# Altium schematic symbol library Capacitor.SchLib: 75 symbols (part 1 of 2)
Pins are listed as number, name and electrical type; pins without a type are passive.

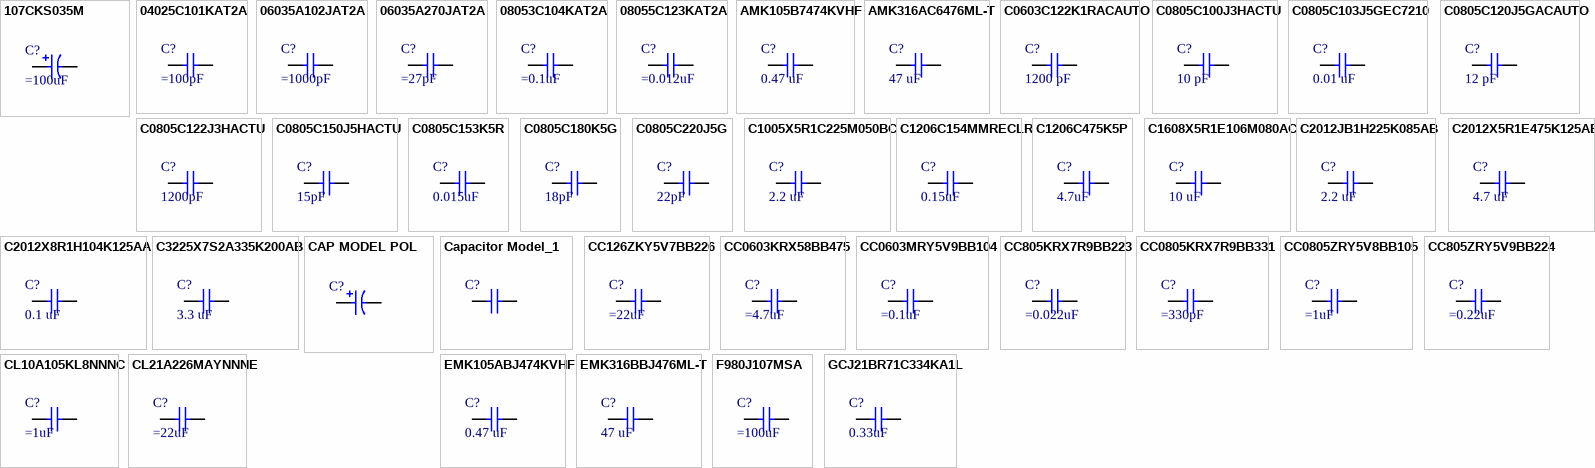
[diagram p0: symbols 107CKS035M to GCJ21BR71C334KA1L]

## 107CKS035M
designator C?
CAP TAN 100uF 35V Radial; Manufacturer: Cornell Dubilier; Part Number: 107CKS035M; Tolerance: 20%; ESR: 1.989; Dieletric: Eletrolytic; Supplier 1: Mouser; Category: Eletrolytic Capacitor; Price: 1=0,24, 10=0,126, 100=0,074 (USD); Supplier Part Number 1: 598-107CKS035M; Library Ref: Capacitor; Operating Temperature: -40 to 85ºC; Package / Case: Radial PTH; Size / Dimension: 6.3mmx11mm; Value: 100uF; Voltage - Rated: 35V; ComponentLink1Description: Datasheet; ComponentLink1URL: https://br.mouser.com/datasheet/2/88/CKR_CKS_series-772731.pdf; ComponentLink2Description: Mouser Link; ComponentLink2URL: https://br.mouser.com/ProductDetail/CDE-Illinois-Capacitor/107CKS035M?qs=%2Fha2pyFaduj0NJWQ67zoZBcPzFI1VoJId1S4xcgPhkHeztxHYJg8Iw%3D%3D
pins: 1, 2

## 04025C101KAT2A
designator C?
CAP CER 100pF 50V X7R 0402; Manufacturer: AVX; Part Number: 04025C101KAT2A; Tolerance: 10%; ESR: 0.05; Supplier 1: Mouser; Category: Ceramic Capacitor; Price: 1=0,08, 10=0.02, 100=0.014 (USD); Supplier Part Number 1: 581-04025C101KAT2A; Library Ref: Ceramic Capacitor; Operating Temperature: -55 to 125ºC; Package / Case: 0402; Size / Dimension: 04in x 02in; Voltage - Rated: 50V; Dieletric: X7R; ComponentLink1Description: Datasheet; ComponentLink1URL: https://br.mouser.com/datasheet/2/40/X7RDielectric-777024.pdf; Value: 100pF; ComponentLink2Description: Mouser Link; ComponentLink2URL: https://br.mouser.com/ProductDetail/AVX/04025C101KAT2A?qs=%2Fha2pyFaduhggj4ZhF4G5XhN6TccHIDYkXIcBOPptfnZFgW%252B7rVTLA%3D%3D
pins: 1, 2

## 06035A102JAT2A
designator C?
CAP CER 1000pF 50V C0G 0603; Manufacturer: AVX; Part Number: 06035A102JAT2A; Tolerance: 5%; ESR: 0.05; Supplier 1: Mouser; Category: Ceramic Capacitor; Price: 1=0,09, 10=0,05, 100=0,04 (USD); Supplier Part Number 1: 581-06035A102J; Library Ref: Capacitor; Operating Temperature: -55 to 125ºC; Package / Case: 0603; Size / Dimension: 06inx03in; Value: 1000pF; Voltage - Rated: 50V; Dieletric: C0G; ComponentLink1Description: Mouser Link; ComponentLink1URL: https://br.mouser.com/ProductDetail/AVX/06035A102JAT2A?qs=I5rfTV0A4wGLF2%252B95sWyMg%3D%3D; ComponentLink2Description: Datasheet; ComponentLink2URL: https://br.mouser.com/datasheet/2/40/C0GNP0_Dielectric-951274.pdf
pins: 1, 2

## 06035A270JAT2A
designator C?
CAP CER 27pF 50V C0G 0603; Manufacturer: AVX; Part Number: 06035A270JAT2A; Tolerance: 5%; ESR: 0.05; Supplier 1: Mouser; Category: Ceramic Capacitor; Price: 1=0,09, 10=0,037, 100=0,03 (USD); Supplier Part Number 1: 581-06035A270J; Library Ref: Capacitor; Operating Temperature: -55 to 125ºC; Package / Case: 0603; Size / Dimension: 06inx03in; Value: 27pF; Voltage - Rated: 50V; Dieletric: C0G; ComponentLink1Description: Datasheet; ComponentLink1URL: https://br.mouser.com/datasheet/2/40/C0GNP0_Dielectric-951274.pdf; ComponentLink2Description: Mouser; ComponentLink2URL: https://br.mouser.com/ProductDetail/AVX/06035A270JAT2A?qs=vSj8LwOPNX9mUsehDrKexg%3D%3D
pins: 1, 2

## 08053C104KAT2A
designator C?
CAP CER 0.1uF 25V X7R 0805; Manufacturer: AVX; Part Number: 08053C104KAT2A; Tolerance: 10%; ESR: 0.05; Supplier 1: Mouser; Category: Ceramic Capacitor; Price: 1=0,10, 10=0,041, 100=0,033 (USD); Supplier Part Number 1: 581-08053C104K; Library Ref: Capacitor; Operating Temperature: -55 to 125ºC; Package / Case: 0805; Size / Dimension: 08inx05in; Value: 0.1uF; Voltage - Rated: 25V; Dieletric: X7R; ComponentLink1Description: Datasheet; ComponentLink1URL: https://br.mouser.com/datasheet/2/40/X7RDielectric-777024.pdf; ComponentLink2Description: Mouser Link; ComponentLink2URL: https://br.mouser.com/ProductDetail/AVX/08053C104KAT2A?qs=EihRZLdKnF2GcTBzDkE%2FiQ%3D%3D
pins: 1, 2

## 08055C123KAT2A
designator C?
CAP CER 0.012uF 50V X7R 0805; Manufacturer: AVX; Part Number: 08055C123KAT2A; Tolerance: 10%; ESR: 0.05; Dieletric: Yes; Supplier 1: Mouser; Category: Ceramic Capacitor; Price: 1=0,16, 10=0,117, 100=0,055 (USD); Supplier Part Number 1: 581-08055C123KAT2A; Library Ref: Capacitor; Operating Temperature: -55 to 125ºC; Package / Case: 0805; Size / Dimension: 08inx05in; Value: 0.012uF; Voltage - Rated: 50V; ComponentLink1Description: Mouser Link; ComponentLink1URL: https://br.mouser.com/ProductDetail/AVX/08055C123KAT2A?qs=%2Fha2pyFaduhvDSS1lqvv21dbH7VJPfJtCSCEsQc%2FXEQL%252BiUjfj2qIg%3D%3D; ComponentLink2Description: Datasheet; ComponentLink2URL: https://br.mouser.com/datasheet/2/40/X7RDielectric-777024.pdf
pins: 1, 2

## AMK105B7474KVHF
designator C?, comment 0.47 uF
CAP CER 0.47UF 4V X7R 0402; Manufacturer: TAIYO YUDEN; Part Number: AMK105B7474KVHF; Tolerance: 10%; Supplier 1: MOUSER; Category: Ceramic Capacitor; Price: 1= 0.16000, 10= 0.06300, 100= 0.04800 (USD); Supplier Part Number 1: 963-AMK105B7474KVHF; Library Ref: Capacitor; Operating Temperature: -55°C/125°C; Package / Case: 0402 (1005 metric); Size / Dimension: 1mm x 0.5mm; Value: 0.47 uF; Voltage - Rated: 4V; ESR: -; Dieletric: X7R; ComponentLink1Description: Datasheet; ComponentLink1URL: https://br.mouser.com/datasheet/2/396/Taiyo_Yuden_mlcc_all_e-1847032.pdf; ComponentLink2Description: Mouser Link; ComponentLink2URL: https://br.mouser.com/ProductDetail/Taiyo-Yuden/AMK105B7474KVHF?qs=%2Fha2pyFaduilXii8iK1fwNTeaDbqBptDODMvilJnsXr7ELRCT7pHfY7EXtUvHbiQ
footprint C0402
pins: 1, 2

## AMK316AC6476ML-T
designator C?, comment 47 uF
CAP CER 47UF 4V X6S 1206; Manufacturer: TAIYO YUDEN; Part Number: AMK316AC6476ML-T; Tolerance: 20%; Supplier 1: MOUSER; Category: Ceramic Capacitor; Price: 1= 0.62000, 10= 0.37200, 100= 0.30500 (USD); Supplier Part Number 1: 963-AMK316AC6476ML-T; Library Ref: Capacitor; Operating Temperature: -55°C/105°C; Package / Case: 1206 (3216 metric); Size / Dimension: 3.2mm x 1.6mm; Value: 47 uF; Voltage - Rated: 4V; ESR: -; Dieletric: X6S; ComponentLink1Description: Datasheet; ComponentLink1URL: https://br.mouser.com/datasheet/2/396/mlcc02_e-1307760.pdf; ComponentLink2Description: Mouser Link; ComponentLink2URL: https://br.mouser.com/ProductDetail/Taiyo-Yuden/AMK316AC6476ML-T?qs=%2Fha2pyFaduiS4A7eemjo6F1PsxNuv8I2JI0z2gXvlswHfa99sbyJCM2bobhxWlJa
footprint C1206
pins: 1, 2

## C0603C122K1RACAUTO
designator C?, comment 1200 pF
CAP CER 1200PF 100V X7R 0603; Manufacturer: KEMET; Part Number: C0603C122K1RACAUTO; Tolerance: 10%; Supplier 1: MOUSER; Category: Ceramic Capacitor; Price: 1= 0.41000, 10= 0.21000, 100= 0.14000 (USD); Supplier Part Number 1: 80-C0603C122K1RAUTO; Library Ref: Capacitor; Operating Temperature: -55°C/125°C; Package / Case: 0603 (1608 metric); Size / Dimension: 1.6mm x 0.8mm; Value: 1200 pF; Voltage - Rated: 100V; Dieletric: X7R; ComponentLink1Description: Datasheet; ComponentLink1URL: https://br.mouser.com/datasheet/2/212/KEM_C1023_X7R_AUTO_SMD-1093309.pdf; ComponentLink2Description: Mouser Link; ComponentLink2URL: https://br.mouser.com/ProductDetail/KEMET/C0603C122K1RACAUTO?qs=%2Fha2pyFaduiZQyNwqPZAplbTMsc59wd3WcxkSmDtGmSXmQoJO19iI%252BLFPnQmr2P%2F; ComponentLink3Description: ESR; ComponentLink3URL: https://www.kemet.com/en/us/capacitors/ceramic/product/C0603C122K1RACAUTO.html
footprint C0603
pins: 1, 2

## C0805C100J3HACTU
designator C?, comment 10 pF
CAP CER 10PF 25V X8R 0805; Manufacturer: KEMET; Part Number: C0805C100J3HACTU; Tolerance: 5%; Supplier 1: MOUSER; Category: Ceramic Capacitor; Price: 1= 0.11000, 10= 0.04300, 100= 0.03500 (USD); Supplier Part Number 1: 80-C0805C100J3HACTU; Library Ref: Capacitor; Operating Temperature: -55°C/150°C; Package / Case: 0805 (2012 metric); Size / Dimension: 2mm x 1.25mm; Value: 10 pF; Voltage - Rated: 25V; Dieletric: X8R; ComponentLink1Description: Datasheet; ComponentLink1URL: https://br.mouser.com/datasheet/2/212/KEM_C1007_X8R_ULTRA_150C_SMD-1102703.pdf; ComponentLink2Description: Mouser Link; ComponentLink2URL: https://br.mouser.com/ProductDetail/KEMET/C0805C100J3HACTU?qs=%2Fha2pyFadugbjD%2F0nhYM20Hy0WdOSW%252BWMdtP3%2FL5YM%2FAcIjuKnufQA%3D%3D; ComponentLink3Description: ESR; ComponentLink3URL: https://www.kemet.com/en/us/capacitors/ceramic/product/C0805C100J3HACTU.html
footprint C0805
pins: 1, 2

## C0805C103J5GEC7210
designator C?, comment 0.01 uF
CAP CER 0.01UF 50V C0G 0805; Manufacturer: KEMET; Part Number: C0805C103J5GEC7210; Tolerance: 5%; Dieletric: C0G (NP0); Supplier 1: MOUSER; Category: Ceramic Capacitor; Price: 1= 0.32000, 10= 0.17000, 100= 0.10000 (USD); Supplier Part Number 1: 80-C0805C103J5GECLR; Library Ref: Capacitor; Operating Temperature: -55°C/125°C; Package / Case: 0805 (2012 metric); Size / Dimension: 2mm x 1.25mm; Value: 0.01 uF; Voltage - Rated: 50V; ComponentLink1Description: Datasheet; ComponentLink1URL: https://br.mouser.com/datasheet/2/212/1/KEM_C1091_C0G_ESD-1140493.pdf; ComponentLink2Description: Mouser Link; ComponentLink2URL: https://br.mouser.com/ProductDetail/KEMET/C0805C103J5GEC7210?qs=%2Fha2pyFadugbjD%2F0nhYM26xuMfYGUnRiP1z2%252BtGaEcHVG6GFTMUGURxCYTcCh9SN; ComponentLink3Description: ESR; ComponentLink3URL: https://www.kemet.com/en/us/capacitors/ceramic/product/C0805C103J5GEC7210.html
footprint C0805
pins: 1, 2

## C0805C120J5GACAUTO
designator C?, comment 12 pF
CAP CER 12PF 50V C0G 0805; Manufacturer: KEMET; Part Number: C0805C120J5GACAUTO; Tolerance: 5%; Dieletric: C0G (NP0); Supplier 1: MOUSER; Category: Ceramic Capacitor; Price: 1= 0.19000, 10= 0.08100, 100= 0.05600 (USD); Supplier Part Number 1: 80-C0805C120J5GAUTO; Library Ref: Capacitor; Operating Temperature: -55°C/125°C; Package / Case: 0805 (2012 metric); Size / Dimension: 2mm x 1.25mm; Value: 12 pF; Voltage - Rated: 50V; ComponentLink1Description: Datasheet; ComponentLink1URL: https://br.mouser.com/datasheet/2/212/KEM_C1022_C0G_AUTO_SMD-1093282.pdf; ComponentLink2Description: Mouser Link; ComponentLink2URL: https://br.mouser.com/ProductDetail/KEMET/C0805C120J5GACAUTO?qs=%2Fha2pyFadujJVEGMprvFBFKCx4onbP6mr6EPBaSXh%252BT5WAdZ6DPrL8U61vzGIpSQ; ComponentLink3Description: ESR; ComponentLink3URL: https://www.kemet.com/en/us/capacitors/ceramic/product/C0805C120J5GACAUTO.html
footprint C0805
pins: 1, 2

## C0805C122J3HACTU
designator C?, comment 1200pF
CAP CER 1200pF 25V X8R 0805; Manufacturer: KEMET; Part Number: C0805C122J3HACTU; Tolerance: 5%; Voltage - Rated: 25VDC; ESR: EXTREMELY LOW; Supplier 1: MOUSER; Category: Ceramic capacitor; Price: 1=0,13, 10=0,06, 100=0,04 (USD); Supplier Part Number 1: 80-C0805C122J3HACTU; Library Ref: Capacitor; Operating Temperature: -55/150ºC; Package / Case: 0805; Size / Dimension: 08X05 IN; Value: 1200pF; Dieletric: X8R; ComponentLink1Description: Datasheet; ComponentLink1URL: https://br.mouser.com/datasheet/2/212/KEM_C1007_X8R_ULTRA_150C_SMD-1102703.pdf; ComponentLink2Description: Mouser Link; ComponentLink2URL: https://br.mouser.com/ProductDetail/KEMET/C0805C122J3HACTU?qs=%2Fha2pyFadugUkFrdBsG9l9oDes7VihZNuA%252B5B3zrL18MNmNIvSeM%252BItoeO5QllQu
footprint C0805
footprint C0805
pins: 1, 2

## C0805C150J5HACTU
designator C?, comment 15pF
CAP CER 15pF 50V X8R 0805; Manufacturer: KEMET; Part Number: C0805C150J5HACTU; Tolerance: 5%; Voltage - Rated: 50VDC; ESR: EXTREMELY LOW; Supplier 1: MOUSER; Category: Ceramic capacitor; Price: 1=0,10, 10=0,034, 100=0,024 (USD); Supplier Part Number 1: 80-C0805C150J5HACTU; Library Ref: Capacitor; Operating Temperature: -55/150ºC; Package / Case: 0805; Size / Dimension: 08X05 IN; Value: 15pF; Dieletric: X8R; ComponentLink1Description: Mouser Link; ComponentLink1URL: https://br.mouser.com/ProductDetail/KEMET/C0805C150J5HACTU?qs=%2Fha2pyFadugUkFrdBsG9l0Ysr39pD3AON00Yx922UuHyM30fSzqnGdRAUkBPCFrP; ComponentLink2Description: Datasheet; ComponentLink2URL: https://br.mouser.com/datasheet/2/212/KEM_C1007_X8R_ULTRA_150C_SMD-1102703.pdf
footprint C0805
footprint C0805
pins: 1, 2

## C0805C153K5R
designator C?, comment 0.015uF
CAP CER 0.015uF 50V X7R 0805; Manufacturer: KEMET; Part Number: C0805C153K5R; Tolerance: 10%; Voltage - Rated: 50VDC; Supplier 1: MOUSER; Category: Ceramic capacitor; Price: 1=0,10, 10=0,034, 100=0,02 (USD); Supplier Part Number 1: 80-C0805C153K5R; Library Ref: Capacitor; Operating Temperature: -55/125ºC; Package / Case: 0805; Size / Dimension: 08X05 IN; Value: 0.015uF; ESR: -; Dieletric: X7R; ComponentLink1Description: Datasheet; ComponentLink1URL: https://br.mouser.com/datasheet/2/212/KEM_C1002_X7R_SMD-1102033.pdf; ComponentLink2Description: Mouser Link; ComponentLink2URL: https://br.mouser.com/ProductDetail/KEMET/C0805C153K5RACTU?qs=SmE4D0qXCUQDzSI7kMUD0w%3D%3D
footprint C0805
footprint C0805
pins: 1, 2

## C0805C180K5G
designator C?, comment 18pF
CAP CER 18pF 50V C0G 0805; Manufacturer: KEMET; Part Number: C0805C180K5G; Tolerance: 10%; Voltage - Rated: 50VDC; ESR: EXTREMELY LOW; Dieletric: C0G (NP0); Supplier 1: MOUSER; Category: Ceramic capacitor; Price: 1=0,28, 10=0,131, 100=0,08 (USD); Supplier Part Number 1: 80-C0805C180K5G; Library Ref: Capacitor; Operating Temperature: -55/125ºC; Package / Case: 0805; Size / Dimension: 08X05 IN; Value: 18pF; ComponentLink1Description: Mouser Link; ComponentLink1URL: https://br.mouser.com/ProductDetail/KEMET/C0805C180K5GACTU?qs=hdV%252BWQZ8%252Bd3bYFmzXzry9w%3D%3D; ComponentLink2Description: Datasheet; ComponentLink2URL: https://br.mouser.com/datasheet/2/212/KEM_C1003_C0G_SMD-1101588.pdf
footprint C0805
footprint C0805
pins: 1, 2

## C0805C220J5G
designator C?, comment 22pF
CAP CER 22pF 50V C0G 0805; Manufacturer: KEMET; Part Number: C0805C220J5G; Tolerance: 5%; Voltage - Rated: 50VDC; ESR: EXTREMELY LOW; Dieletric: C0G (NP0); Supplier 1: MOUSER; Category: Ceramic capacitor; Price: 1=0,16, 10=0,063, 100=0,044 (USD); Supplier Part Number 1: 80-C0805C220J5G; Library Ref: Capacitor; Operating Temperature: -55/125ºC; Package / Case: 0805; Size / Dimension: 08X05 IN; Value: 22pF; ComponentLink1Description: Mouser Link; ComponentLink1URL: https://br.mouser.com/ProductDetail/KEMET/C0805C220J5GACTU?qs=4DgSOGFclrMUW3bJDWrdLw%3D%3D; ComponentLink2Description: New link; ComponentLink2URL: https://br.mouser.com/datasheet/2/212/KEM_C1003_C0G_SMD-1101588.pdf
footprint C0805
footprint C0805
pins: 1, 2

## C1005X5R1C225M050BC
designator C?, comment 2.2 uF
CAP CER 2.2UF 16V X5R 0402; Manufacturer: TDK; Part Number: C1005X5R1C225M050BC; Tolerance: 20%; Supplier 1: MOUSER; Category: Ceramic Capacitor; Price: 1= 0.33000, 10= 0.15400, 100= 0.13500 (USD); Supplier Part Number 1: 810-C1005X5R1C225M; Library Ref: Capacitor; Operating Temperature: -55°C/85°C; Package / Case: 0402 (1005 metric); Size / Dimension: 1mm x 0.5mm; Value: 2.2 uF; Voltage - Rated: 16V; Dieletric: X5R; ComponentLink1Description: Datasheet; ComponentLink1URL: https://product.tdk.com/system/files/dam/doc/product/capacitor/ceramic/mlcc/catalog/mlcc_commercial_general_en.pdf; ComponentLink2Description: Mouser Link; ComponentLink2URL: https://br.mouser.com/ProductDetail/TDK/C1005X5R1C225M050BC?qs=%2Fha2pyFaduhU5KeTuzJ6cgu5msb4qv%252BHR3wvbG6WdO9o%252B44FZFkWvfar1ahjHCOq; ComponentLink3Description: ESR; ComponentLink3URL: https://product.tdk.com/en/search/capacitor/ceramic/mlcc/info?part_no=C1005X5R1C225M050BC
footprint C0402
pins: 1, 2

## C1206C154MMRECLR
designator C?, comment 0.15uF
CAP CER 0.15uF 63V X7R 1206; Manufacturer: KEMET; Part Number: C1206C154MMRECLR; Tolerance: 20%; Voltage - Rated: 63VDC; Supplier 1: MOUSER; Category: Ceramic capacitor; Price: 1=0,23, 1=0,12, 100=0,072 (USD); Supplier Part Number 1: 80-C1206C154MMRECLR; Library Ref: Capacitor; Operating Temperature: -55/125ºC; Package / Case: 1206; Size / Dimension: 12X06 IN; Value: 0.15uF; ESR: -; Dieletric: X7R; ComponentLink1Description: Datasheet; ComponentLink1URL: https://br.mouser.com/datasheet/2/212/1/KEM_C1090_X7R_ESD-1103328.pdf; ComponentLink2Description: Mouser Link; ComponentLink2URL: https://br.mouser.com/ProductDetail/KEMET/C1206C154MMREC7210?qs=%2Fha2pyFaduiTiPynh%252BZK1%2FpR7hi5ocWbHoFQjooUfsZooXZx5Z%252BDV11yHKZTkCpA
footprint C1206
footprint C1206
pins: 1, 2

## C1206C475K5P
designator C?, comment 4.7uF
CAP CER 4.7uF 50V X5R 1206; Manufacturer: KEMET; Part Number: C1206C475K5P; Tolerance: 10%; Voltage - Rated: 50VDC; Supplier 1: MOUSER; Category: Ceramic capacitor; Price: 1=1,36, 10=0,96, 100=0,606 (USD); Supplier Part Number 1: 80-C1206C475K5P; Library Ref: Capacitor; Operating Temperature: -55/85ºC; Package / Case: 1206; Size / Dimension: 12X06 IN; Value: 4.7uF; ESR: -; Dieletric: X5R; ComponentLink1Description: Datasheet; ComponentLink1URL: https://br.mouser.com/datasheet/2/212/KEM_C1006_X5R_SMD-1103249.pdf; ComponentLink2Description: Mouser Link; ComponentLink2URL: https://br.mouser.com/ProductDetail/KEMET/C1206C475K5PACTU?qs=K%2Fj%2Fqf%252B0fqKI1X%2F9Wb8kiA%3D%3D
footprint C1206
footprint C1206
pins: 1, 2

## C1608X5R1E106M080AC
designator C?, comment 10 uF
CAP CER 10UF 25V X5R 0603; Manufacturer: TDK; Part Number: C1608X5R1E106M080AC; Tolerance: 20%; Supplier 1: MOUSER; Category: Ceramic Capacitor; Price: 1= 0.82000, 10= 0.44000, 100= 0.37000 (USD); Supplier Part Number 1: 810-C1608X5R1E106M; Library Ref: Capacitor; Operating Temperature: -55°C/85°C; Package / Case: 0603 (1608 metric); Size / Dimension: 1.6mm x 0.8mm; Value: 10 uF; Voltage - Rated: 25V; Dieletric: X5R; ComponentLink1Description: Datasheet; ComponentLink1URL: https://product.tdk.com/system/files/dam/doc/product/capacitor/ceramic/mlcc/catalog/mlcc_commercial_general_en.pdf; ComponentLink2Description: Mouser Link; ComponentLink2URL: https://br.mouser.com/ProductDetail/TDK/C1608X5R1E106M080AC?qs=dfay7wIA1uGdHfZTkqsICA%3D%3D; ComponentLink3Description: ESR; ComponentLink3URL: https://product.tdk.com/en/search/capacitor/ceramic/mlcc/info?part_no=C1608X5R1E106M080AC
footprint C0603
pins: 1, 2

## C2012JB1H225K085AB
designator C?, comment 2.2 uF
CAP CER 2.2UF 50V JB 0805; Manufacturer: TDK; Part Number: C2012JB1H225K085AB; Tolerance: 10%; Supplier 1: MOUSER; Category: Ceramic Capacitor; Price: 1= 0.54000, 10= 0.29000, 100= 0.24000; Supplier Part Number 1: 810-C2012JB1H225K08B; Library Ref: Capacitor; Operating Temperature: -25°C/85°C; Package / Case: 0805 (2012 metric); Size / Dimension: 2mm x 1.25mm; Value: 2.2 uF; Voltage - Rated: 50V; Dieletric: JB; ComponentLink1Description: Datasheet; ComponentLink1URL: https://product.tdk.com/system/files/dam/doc/product/capacitor/ceramic/mlcc/catalog/mlcc_commercial_general_en.pdf; ComponentLink2Description: Mouser Link; ComponentLink2URL: https://br.mouser.com/ProductDetail/TDK/C2012JB1H225K085AB?qs=%2Fha2pyFaduhfcr8SP%252B2uo5CaVPAdgY64fsQe34Im7gi1%2FP6MYeewVcxuqbQfRqQd; ComponentLink3Description: ESR; ComponentLink3URL: https://product.tdk.com/en/search/capacitor/ceramic/mlcc/info?part_no=C2012JB1H225K085AB
footprint C0805
pins: 1, 2

## C2012X5R1E475K125AB
designator C?, comment 4.7 uF
CAP CER 4.7UF 25V X5R 0805; Manufacturer: TDK; Part Number: C2012X5R1E475K125AB; Tolerance: 10%; Supplier 1: MOUSER; Category: Ceramic Capacitor; Price: 1= 0.23000, 10= 0.13200, 100= 0.10400 (USD); Supplier Part Number 1: 810-C2012X5R1E475K; Library Ref: Capacitor; Operating Temperature: -55°C/85°C; Package / Case: 0805 (2012 metric); Size / Dimension: 2mm x 1.25mm; Value: 4.7 uF; Voltage - Rated: 25V; Dieletric: X5R; ComponentLink1Description: Datasheet; ComponentLink1URL: https://product.tdk.com/system/files/dam/doc/product/capacitor/ceramic/mlcc/catalog/mlcc_commercial_general_en.pdf; ComponentLink2Description: Mouser Link; ComponentLink2URL: https://br.mouser.com/ProductDetail/TDK/C2012X5R1E475K125AB?qs=LcTL%2F5vFEzEfIWXeqp5s%252BQ%3D%3D; ComponentLink3Description: ESR; ComponentLink3URL: https://product.tdk.com/en/search/capacitor/ceramic/mlcc/info?part_no=C2012X5R1E475K125AB
footprint C0805
pins: 1, 2

## C2012X8R1H104K125AA
designator C?, comment 0.1 uF
CAP CER 0.1UF 50V X8R 0805; Manufacturer: TDK; Part Number: C2012X8R1H104K125AA; Tolerance: 10%; Supplier 1: MOUSER; Category: Ceramic Capacitor; Price: 1= 0.19000, 10= 0.07800, 100= 0.06200 (USD); Supplier Part Number 1: 810-C2012X8R1H104K; Library Ref: Capacitor; Operating Temperature: -55°C/150°C; Package / Case: 0805 (2012 metric); Size / Dimension: 2mm x 1.25mm; Value: 0.1 uF; Voltage - Rated: 50V; Dieletric: X8R; ComponentLink1Description: Datasheet; ComponentLink1URL: https://product.tdk.com/system/files/dam/doc/product/capacitor/ceramic/mlcc/catalog/mlcc_commercial_hightemp_en.pdf; ComponentLink2Description: Mouser Link; ComponentLink2URL: https://br.mouser.com/ProductDetail/TDK/C2012X8R1H104K125AA?qs=LcTL%2F5vFEzGKSp1wtNLEIQ%3D%3D; ComponentLink3Description: ESR; ComponentLink3URL: https://product.tdk.com/en/search/capacitor/ceramic/mlcc/info?part_no=C2012X8R1H104K125AA
footprint C0805
pins: 1, 2

## C3225X7S2A335K200AB
designator C?, comment 3.3 uF
CAP CER 3.3UF 100V X7S 1210; Manufacturer: TDK; Part Number: C3225X7S2A335K200AB; Tolerance: 10%; Supplier 1: MOUSER; Category: Ceramic Capacitor; Price: 1= 0.89000, 10= 0.52600, 100= 0.43700 (USD); Supplier Part Number 1: 810-C3225X7S2A335K; Library Ref: Capacitor; Operating Temperature: -55°C/125°C; Package / Case: 1210 (3225 metric); Size / Dimension: 3.2mm x 2.5mm; Value: 3.3 uF; Voltage - Rated: 100V; Dieletric: X7S; ComponentLink1Description: Datasheet; ComponentLink1URL: https://product.tdk.com/system/files/dam/doc/product/capacitor/ceramic/mlcc/catalog/mlcc_commercial_midvoltage_en.pdf; ComponentLink2Description: Mouser Link; ComponentLink2URL: https://br.mouser.com/ProductDetail/TDK/C3225X7S2A335K200AB?qs=NRhsANhppD%2FUFz8kLtE2nA%3D%3D; ComponentLink3Description: ESR; ComponentLink3URL: https://product.tdk.com/en/search/capacitor/ceramic/mlcc/info?part_no=C3225X7S2A335K200AB
footprint C1210
pins: 1, 2

## CAP MODEL POL
designator C?
CAP CER 1UF 25V X7R 0603
pins: 1, 2

## Capacitor Model_1
designator C?
CAP CER 1UF 25V X7R 0603
pins: 1, 2

## CC126ZKY5V7BB226
designator C?
CAP CER 22uF 16V Y5V 1206; Manufacturer: Yageo; Part Number: CC126ZKY5V7BB226; Tolerance: 20%; ESR: 0.05; Supplier 1: Mouser; Category: Ceramic Capacitor; Price: 1=0,39, 10=0,263, 100=0,126 (USD); Supplier Part Number 1: 603-CC126ZKY5V7BB226; Library Ref: Capacitor; Operating Temperature: -30 to 85ºC; Package / Case: 1206; Size / Dimension: 12inx06in; Value: 22uF; Voltage - Rated: 16V; Dieletric: Y5V; ComponentLink1Description: Datasheet; ComponentLink1URL: https://br.mouser.com/datasheet/2/447/yago_s_a0004841839_1-2286631.pdf; ComponentLink2Description: Mouser Link; ComponentLink2URL: https://br.mouser.com/ProductDetail/Yageo/CC1206ZKY5V7BB226?qs=%2Fha2pyFadug8%2F9q8tbHN8a31qpIxuHd1UJ3MZsBtBnnYVT%252BaNlcVgQzV2GGtLQcp
pins: 1, 2

## CC0603KRX58BB475
designator C?
CAP CER 4.7uF 25V X5R 0603; Manufacturer: Yageo; Part Number: CC0603KRX58BB475; Tolerance: 10%; ESR: 0.05; Supplier 1: Mouser; Category: Ceramic Capacitor; Price: 1=0,25, 10=0,141, 100=0,068 (USD); Supplier Part Number 1: 603-CC0603KRX58BB475; Library Ref: Capacitor; Operating Temperature: -30 to 85ºC; Package / Case: 0603; Size / Dimension: 06inx03in; Value: 4.7uF; Voltage - Rated: 25V; Dieletric: X5R; ComponentLink1Description: Datasheet; ComponentLink1URL: https://br.mouser.com/datasheet/2/447/yago_s_a0011397150_1-2286655.pdf; ComponentLink2Description: Mouser Link; ComponentLink2URL: https://br.mouser.com/ProductDetail/Yageo/CC0603KRX5R8BB475?qs=%2Fha2pyFaduh%2F7Q8z%252B7Ot0eflSx5gYDgPHryPFxzpgCUeMwc25ZtPlNgXae48%252BTjy
pins: 1, 2

## CC0603MRY5V9BB104
designator C?
CAP CER 0.1uF 50V Y5V 0603; Manufacturer: Yageo; Part Number: CC0603MRY5V9BB104; Tolerance: 20%; ESR: 0.05; Supplier 1: Mouser; Category: Ceramic Capacitor; Price: 1=0,10, 10=0,038, 100=0,015 (USD); Supplier Part Number 1: 603-C0603MRY5V9BB104; Library Ref: Capacitor; Operating Temperature: -30 to 85ºC; Package / Case: 0603; Size / Dimension: 06inx03in; Value: 0.1uF; Voltage - Rated: 50V; Dieletric: Y5V; ComponentLink1Description: Datasheet; ComponentLink1URL: https://br.mouser.com/datasheet/2/447/UPY_GPHC_Y5V_6_3V_to_50V_9-1827116.pdf; ComponentLink2Description: Mouser Link; ComponentLink2URL: https://br.mouser.com/ProductDetail/Yageo/CC0603MRY5V9BB104?qs=%2Fha2pyFadujNIoVsm%2FhTYqJ%2F27rjqPGzJp9CkMDWOKJKZ5r0hJqeN0wGRPaLjXd0
pins: 1, 2

## CC805KRX7R9BB223
designator C?
CAP CER 0.022uF 50V X7R 0805; Manufacturer: Yageo; Part Number: CC126ZKY5V7BB226; Tolerance: 10%; ESR: 0.05; Supplier 1: Mouser; Category: Ceramic Capacitor; Price: 1=0,12, 10=0,05, 100=0,027 (USD); Supplier Part Number 1: 603-CC805KRX7R9BB223; Library Ref: Capacitor; Operating Temperature: -30 to 85ºC; Package / Case: 0805; Size / Dimension: 08inx05in; Value: 0.022uF; Voltage - Rated: 50V; Dieletric: X7R; ComponentLink1Description: Datasheet; ComponentLink1URL: https://br.mouser.com/datasheet/2/447/UPY_GPHC_X7R_6_3V_to_50V_20-1995650.pdf; ComponentLink2Description: Mouser Link; ComponentLink2URL: https://br.mouser.com/ProductDetail/Yageo/CC0805KRX7R9BB223?qs=%2Fha2pyFaduhNpscxq1sti6SBX%2FsNUcHVvYovyvuH01Fd31rmDpwj9NJuQiKX%2FEPC
pins: 1, 2

## CC0805KRX7R9BB331
designator C?
CAP CER 330pF 50V X7R 0805; Manufacturer: Yageo; Part Number: CC0805KRX7R9BB331; Tolerance: 10%; ESR: 0.05; Supplier 1: Mouser; Category: Ceramic Capacitor; Price: 1=0,12, 10=0,053, 100=0,028 (USD); Supplier Part Number 1: 603-CC805KRX7R9BB331; Library Ref: Capacitor; Operating Temperature: -30 to 85ºC; Package / Case: 0805; Size / Dimension: 08inx05in; Value: 330pF; Voltage - Rated: 50V; Dieletric: X7R; ComponentLink1Description: Datasheet; ComponentLink1URL: https://br.mouser.com/datasheet/2/447/UPY_GPHC_X7R_6_3V_to_50V_20-1995650.pdf; ComponentLink2Description: Mouser Link; ComponentLink2URL: https://br.mouser.com/ProductDetail/Yageo/CC0805KRX7R9BB331?qs=%2Fha2pyFaduhNpscxq1sti6SBX%2FsNUcHVfYCJFeu65yqye3sdCJm%252B%252BSPd8pfuI7w1
pins: 1, 2

## CC0805ZRY5V8BB105
designator C?
CAP CER 1uF 25V Y5V 0805; Manufacturer: Yageo; Part Number: CC0805ZRY5V8BB105; Tolerance: 20%; ESR: 0.05; Supplier 1: Mouser; Category: Ceramic Capacitor; Price: 1=0,14, 10=0,056, 100=0,033 (USD); Supplier Part Number 1: 603-CC805KRX7R9BB331; Library Ref: Capacitor; Operating Temperature: -30 to 85ºC; Package / Case: 0805; Size / Dimension: 08inx05in; Value: 1uF; Voltage - Rated: 25V; Dieletric: Y5V; ComponentLink1Description: Datasheet; ComponentLink1URL: https://br.mouser.com/datasheet/2/447/yago_s_a0004841839_1-2286631.pdf; ComponentLink2Description: Mouser Link; ComponentLink2URL: https://br.mouser.com/ProductDetail/Yageo/CC0805ZRY5V8BB105?qs=%2Fha2pyFaduhNpscxq1sti%2FWGfef5%252B7abNQFh0pSFqzoFpwPoZWE8UM%252BupYNGXIAb
pins: 1, 2

## CC805ZRY5V9BB224
designator C?
CAP CER 0.22uF 50V Y5V 0805; Manufacturer: Yageo; Part Number: CC805ZRY5V9BB224; Tolerance: 20%; ESR: 0.05; Supplier 1: Mouser; Category: Ceramic Capacitor; Price: 1=0,17, 10=0,069. 100=0,04; Supplier Part Number 1: 603-CC805ZRY5V9BB224; Library Ref: Capacitor; Operating Temperature: -30 to 85ºC; Package / Case: 0805; Size / Dimension: 08inx05in; Value: 0.22uF; Voltage - Rated: 50V; Dieletric: Y5V; ComponentLink1Description: Datasheet; ComponentLink1URL: https://br.mouser.com/datasheet/2/447/UPY_GPHC_Y5V_6_3V_to_50V_9-1827116.pdf; ComponentLink2Description: Mouser Link; ComponentLink2URL: https://br.mouser.com/ProductDetail/Yageo/CC0805ZRY5V9BB224?qs=%2Fha2pyFaduhNpscxq1sti0Qw6N3MgEmHNiq3JeC1ZbLopApyqcPqwjoutqmfLXNP
pins: 1, 2

## CL10A105KL8NNNC
designator C?
CAP CER 1uF 35V X5R 1608; Manufacturer: Samsung; Part Number: CL10A105KL8NNNC; Tolerance: 10%; ESR: 0.05; Supplier 1: Mouser; Category: Ceramic Capacitor; Price: 1=0,16, 10=0,06, 100=0,05 (USD); Supplier Part Number 1: 187-CL10A105KL8NNNC; Library Ref: Capacitor; Operating Temperature: -55 to 85ºC; Package / Case: 1608; Size / Dimension: 16inx08in; Value: 1uF; Voltage - Rated: 35V; Dieletric: X5R; ComponentLink1Description: Datasheet; ComponentLink1URL: https://br.mouser.com/datasheet/2/585/MLCC-1837944.pdf; ComponentLink2Description: Mouser Link; ComponentLink2URL: https://br.mouser.com/ProductDetail/Samsung-Electro-Mechanics/CL10A105KL8NNNC?qs=%2Fha2pyFaduh06XkX8p6Q2P6zyU%2FOdLaFhtyhLf3OwYoYT04xk16dYgUTgdohHr0l
pins: 1, 2

## CL21A226MAYNNNE
designator C?
CAP CER 22uF 25V X5R 2012; Manufacturer: Samsung; Part Number: CL21A226MAYNNNE; Tolerance: 20%; ESR: 0.05; Supplier 1: Mouser; Category: Ceramic Capacitor; Price: 1=0,38, 10=0,19, 100=0,14 (USD); Supplier Part Number 1: 187-CL21A226MAYNNNE; Library Ref: Capacitor; Operating Temperature: -55 to 85ºC; Package / Case: 2012; Size / Dimension: 20inx12in; Value: 22uF; Voltage - Rated: 25V; Dieletric: X5R; ComponentLink1Description: Datasheet; ComponentLink1URL: https://br.mouser.com/datasheet/2/585/MLCC-1837944.pdf; ComponentLink2Description: Mouser Link; ComponentLink2URL: https://br.mouser.com/ProductDetail/Samsung-Electro-Mechanics/CL21A226MAYNNNE?qs=%2Fha2pyFaduhiBLIsx5DshsHJNiaGLG%2F%2FQ%2FEW0rlhIwqpbRT7zlvlzaSNzFrrEIrv
pins: 1, 2

## EMK105ABJ474KVHF
designator C?, comment 0.47 uF
CAP CER 0.47UF 16V X5R 0402; Manufacturer: TAIYO YUDEN; Part Number: EMK105ABJ474KVHF; Tolerance: 10%; Supplier 1: MOUSER; Category: Ceramic Capacitor; Price: 1= 0.1400, 10= 0.05600, 100= 0.03800 (USD); Supplier Part Number 1: 963-EMK105ABJ474KVHF; Library Ref: Capacitor; Operating Temperature: -55°C/85°C; Package / Case: 0402 (1005 metric); Size / Dimension: 1mm x 0.5mm; Value: 0.47 uF; Voltage - Rated: 16V; ESR: -; Dieletric: X5R; ComponentLink1Description: Datasheet; ComponentLink1URL: https://br.mouser.com/datasheet/2/396/taiyo_yuden_12132018_mlcc11_hq_e-1510082.pdf; ComponentLink2Description: Mouser Link; ComponentLink2URL: https://br.mouser.com/ProductDetail/Taiyo-Yuden/EMK105ABJ474KVHF?qs=%2Fha2pyFaduihn8hrI7exLC88JseWfXJ41Ai1aQUmU1eTtXcceNqni99iudcS6ZI%2F
footprint C0402
pins: 1, 2

## EMK316BBJ476ML-T
designator C?, comment 47 uF
CAP CER 47UF 16V X5R 1206; Manufacturer: TAIYO YUDEN; Part Number: EMK316BBJ476ML-T; Tolerance: 20%; Supplier 1: MOUSER; Category: Ceramic Capacitor; Price: 1= 0.66000, 10= 0.40300, 100= 0.31700 (USD); Supplier Part Number 1: 963-EMK316BBJ476ML-T; Library Ref: Capacitor; Operating Temperature: -55°C/85°C; Package / Case: 1206 (3216 metric); Size / Dimension: 3.2 mm x 1.6mm; Value: 47 uF; Voltage - Rated: 16V; ESR: -; Dieletric: X5R; ComponentLink1Description: Datasheet; ComponentLink1URL: https://br.mouser.com/datasheet/2/396/mlcc02_e-1307760.pdf; ComponentLink2Description: Mouser Link; ComponentLink2URL: https://br.mouser.com/ProductDetail/Taiyo-Yuden/EMK316BBJ476ML-T?qs=%2Fha2pyFadugnauAN%2FFh9caokATX8N6AOYkYXgbPABU9t9GTznauSXutmCd4AAPnK
footprint C1206
pins: 1, 2

## F980J107MSA
designator C?
CAP TAN 100uF 0805  20%; Manufacturer: AVX; Part Number: F980J107MSA; Voltage - Rated: 6.3V; ESR: 8Ohms using (100kHz); Dieletric: Tantalum; Supplier 1: Mouser; Category: Tantalum Capacitor; Price: 1=0,63, 25=0,609, 50=0,59 (USD); Supplier Part Number 1: 581-F980J107MSA; Library Ref: Capacitor; Operating Temperature: -55 to 125ºC; Package / Case: 0805; Size / Dimension: 08inx05in; Tolerance: 20%; Value: 100uF; ComponentLink1Description: Datasheet; ComponentLink1URL: https://br.mouser.com/datasheet/2/40/AVX_F98%20DTSH%2008_16-1158749.pdf; ComponentLink2Description: Mouser Link; ComponentLink2URL: https://br.mouser.com/ProductDetail/AVX/F980J107MSA?qs=%2Fha2pyFaduiqmyJM1RWxJ6tWf%252BqxluChd36%252Bz6k56%252ByF7CmEPS5MIQ%3D%3D
pins: 1, 2

## GCJ21BR71C334KA1L
designator C?, comment 0.33uF
CAP CER 0.33uF 16V X7R 0805; Manufacturer: MURATA ELECTRONICS; Part Number: GCJ21BR71C334KA1L; Tolerance: 10%; Voltage - Rated: 16VDC; Supplier 1: MOUSER; Category: Ceramic capacitor; Price: 1=0,39, 10=0,266, 100=0,15 (USD); Supplier Part Number 1: 81-GCJ21BR71C334KA1L; Library Ref: Capacitor; Operating Temperature: -55/125ºC; Package / Case: 0805; Size / Dimension: 08X05 IN; Value: 0.33uF; ESR: -; Dieletric: X7R; ComponentLink1Description: Datasheet; ComponentLink1URL: https://br.mouser.com/datasheet/2/281/GCJ21BR71C334KA01_01-1963995.pdf; ComponentLink2Description: Mouser Link; ComponentLink2URL: https://br.mouser.com/ProductDetail/Murata-Electronics/GCJ21BR71C334KA01L?qs=QzBtWTOodeUMxhxkEqdWGA%3D%3D
footprint C0805
pins: 1, 2

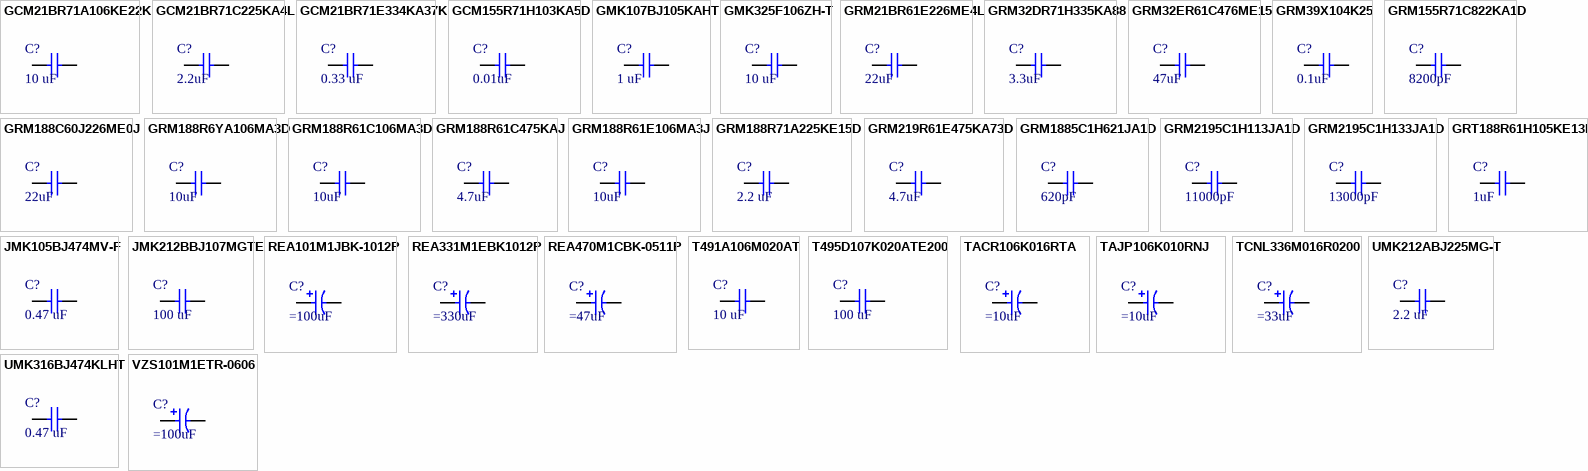
[diagram p1: symbols GCM21BR71A106KE22K to VZS101M1ETR-0606]

## GCM21BR71A106KE22K
designator C?, comment 10 uF
CAP CER 10UF 10V X7R 0805; Manufacturer: MURATA; Part Number: GCM21BR71A106KE22K; Tolerance: 10%; Supplier 1: MOUSER; Category: Ceramic Capacitor; Price: 1= 0.45000, 10= 0.23900, 100= 0.20800 (USD); Supplier Part Number 1: 81-GCM21BR71A106KE2K; Library Ref: Capacitor; Operating Temperature: -55°C/125°C; Package / Case: 0805 (2012 metric); Size / Dimension: 2mm x 1.25mm; Value: 10 uF; Voltage - Rated: 10V; Dieletric: X7R; ComponentLink1Description: Datasheet; ComponentLink1URL: https://br.mouser.com/datasheet/2/281/GCM21BR71A106KE22_01-1968712.pdf; ComponentLink2Description: Mouser Link; ComponentLink2URL: https://br.mouser.com/ProductDetail/Murata-Electronics/GCM21BR71A106KE22K?qs=hNud%2FORuBR1dKZ9zYzJLrA%3D%3D; ComponentLink3Description: ESR; ComponentLink3URL: https://www.murata.com/en-us/products/productdetail?partno=GCM21BR71A106KE22%23
footprint C0805
pins: 1, 2

## GCM21BR71C225KA4L
designator C?, comment 2.2uF
CAP CER 2.2uF 16V X7R 0805; Manufacturer: MURATA ELECTRONICS; Part Number: GCM21BR71C225KA4L; Tolerance: 10%; Voltage - Rated: 16VDC; Supplier 1: MOUSER; Category: Ceramic capacitor; Price: 1=0,41, 10=0,283, 100=0,169 (USD); Supplier Part Number 1: 81-GCM21BR71C225KA4L; Library Ref: Capacitor; Operating Temperature: -55/125ºC; Package / Case: 0805; Size / Dimension: 08X05 IN; Value: 2.2uF; ESR: -; Dieletric: X7R; ComponentLink1Description: Datasheet; ComponentLink1URL: https://br.mouser.com/ProductDetail/Murata-Electronics/GCM21BR71C225KA64L?qs=aEuGZpxfbxV0E5XH%252BwYupA%3D%3D; ComponentLink2Description: Mouser Link; ComponentLink2URL: https://br.mouser.com/ProductDetail/Murata-Electronics/GCM21BR71C225KA64L?qs=aEuGZpxfbxV0E5XH%252BwYupA%3D%3D
footprint C0805
pins: 1, 2

## GCM21BR71E334KA37K
designator C?, comment 0.33 uF
CAP CER 0.33UF 25V X7R 0805; Manufacturer: MURATA; Part Number: GCM21BR71E334KA37K; Tolerance: 10%; Supplier 1: MOUSER; Category: Ceramic Capacitor; Price: 1= 0.52000, 10= 0.36000, 100= 0.23700 (USD); Supplier Part Number 1: 81-GCM21BR71E334KA7K; Library Ref: Capacitor; Operating Temperature: -55°C/125°C; Package / Case: 0805 (2012 metric); Size / Dimension: 2mm x 1.25mm; Value: 0.33 uF; Voltage - Rated: 25V; Dieletric: X7R; ComponentLink1Description: Datasheet; ComponentLink1URL: https://br.mouser.com/datasheet/2/281/GCM21BR71E334KA37_01-1968656.pdf; ComponentLink2Description: Mouser Link; ComponentLink2URL: https://br.mouser.com/ProductDetail/Murata-Electronics/GCM21BR71E334KA37K?qs=N3Kl9KD794Tg%2FXM5q2uFQQ%3D%3D; ComponentLink3Description: ESR; ComponentLink3URL: https://www.murata.com/en-us/products/productdetail?partno=GCM21BR71E334KA37%23
footprint C0805
pins: 1, 2

## GCM155R71H103KA5D
designator C?, comment 0.01uF
CAP CER 0.01uF 50V X7R 0402; Manufacturer: MURATA ELECTRONICS; Part Number: GCM155R71H103KA5D; Tolerance: 10%; Voltage - Rated: 50VDC; Supplier 1: MOUSER; Category: Ceramic capacitor; Price: 1=0,10, 10=0,05, 100=0,018 (USD); Supplier Part Number 1: 81-GCM155R71H103KA5D; Library Ref: Capacitor; Operating Temperature: -55/125ºC; Package / Case: 0402; Size / Dimension: 04X02 IN; Value: 0.01uF; ESR: -; Dieletric: X7R; ComponentLink1Description: Datasheet; ComponentLink1URL: https://br.mouser.com/datasheet/2/281/GCM155R71H103KA55_01-1965603.pdf; ComponentLink2Description: Mouser Link; ComponentLink2URL: https://br.mouser.com/ProductDetail/Murata-Electronics/GCM155R71H103KA55D?qs=aEuGZpxfbxUFaK62TPaKIA%3D%3D
footprint C0402
pins: 1, 2

## GMK107BJ105KAHT
designator C?, comment 1 uF
CAP CER 1UF 35V X5R 0603; Manufacturer: TAIYO YUDEN; Part Number: GMK107BJ105KAHT; Tolerance: 10%; Supplier 1: MOUSER; Category: Ceramic Capacitor; Price: 1= 0.19000, 10= 0.06500, 100= 0.04400 (USD); Supplier Part Number 1: 963-GMK107BJ105KAHT; Library Ref: Capacitor; Operating Temperature: -55°C/85°C; Package / Case: 0603 (1608 metric); Size / Dimension: 1.6mm x 0.8mm; Value: 1 uF; Voltage - Rated: 35V; ESR: -; Dieletric: X5R; ComponentLink1Description: Datasheet; ComponentLink1URL: https://br.mouser.com/datasheet/2/396/taiyo_yuden_12132018_mlcc11_hq_e-1510082.pdf; ComponentLink2Description: Mouser Link; ComponentLink2URL: https://br.mouser.com/ProductDetail/Taiyo-Yuden/GMK107BJ105KAHT?qs=%2Fha2pyFadugfgsXIlkotQ92wbBztYfVCYQK4eynXE%252B0k6svEXRnruHVeQhZpuewN
footprint C0603
pins: 1, 2

## GMK325F106ZH-T
designator C?, comment 10 uF
CAP CER 10UF 35V Y5V 1210; Manufacturer: TAIYO YUDEN; Part Number: GMK325F106ZH-T; Tolerance: -20 %, +80 %; Supplier 1: MOUSER; Category: Ceramic Capacitor; Price: 1= 0.43000, 10= 0.25200, 100= 0.15700 (USD); Supplier Part Number 1: 963-GMK325F106ZH-T; Library Ref: Capacitor; Operating Temperature: -30°C/85°C; Package / Case: 1210 (3225 metric); Size / Dimension: 3.2mm x 2.5mm; Value: 10 uF; Voltage - Rated: 35V; ESR: -; Dieletric: Y5V; ComponentLink1Description: Datasheet; ComponentLink1URL: https://br.mouser.com/datasheet/2/396/taiyo_yuden_12132018_mlcc11_hq_e-1510082.pdf; ComponentLink2Description: Mouser Link; ComponentLink2URL: https://br.mouser.com/ProductDetail/Taiyo-Yuden/GMK325F106ZH-T?qs=%2Fha2pyFaduhOk8nAVfqJawU3cTWB3FiT1SOVkRMPnmGYS8Viy45jdLZMrR2Z8zty
footprint C1210
pins: 1, 2

## GRM21BR61E226ME4L
designator C?, comment 22uF
CAP CER 22uF 25V X5R 0805; Manufacturer: MURATA ELECTRONICS; Part Number: GRM21BR61E226ME4L; Tolerance: 20%; Voltage - Rated: 25VDC; Supplier 1: MOUSER; Category: Ceramic capacitor; Price: 1=0,55, 10=0,269, 100=0,23 (USD); Supplier Part Number 1: 81-GRM21BR61E226ME4L; Library Ref: Capacitor; Operating Temperature: -55/85ºC; Package / Case: 0805; Size / Dimension: 08X05 IN; Value: 22uF; ESR: -; Dieletric: X5R; ComponentLink1Description: Datasheet; ComponentLink1URL: https://br.mouser.com/datasheet/2/281/1/GRM21BR61E226ME44_01A-1986898.pdf; ComponentLink2Description: Mouser Link; ComponentLink2URL: https://br.mouser.com/ProductDetail/Murata-Electronics/GRM21BR61E226ME44L?qs=07yfQVYDK7vCPbMhLHi95g%3D%3D
footprint C0805
pins: 1, 2

## GRM32DR71H335KA88
designator C?, comment 3.3uF
CAP CER 3.3uF 50V X7R 1210; Manufacturer: MURATA ELECTRONICS; Part Number: GRM32DR71H335KA88; Tolerance: 10%; Voltage - Rated: 50VDC; Supplier 1: MOUSER; Category: Ceramic capacitor; Price: 1=1,11, 10=0,874, 100=0,758 (USD); Supplier Part Number 1: 81-GRM32DR71H335KA88; Library Ref: Capacitor; Operating Temperature: -55/125ºC; Package / Case: 1210; Size / Dimension: 12X10 IN; Value: 3.3uF; ESR: https://www.murata.com/en-global/products/productdetail?partno=GRM32DR71H335KA88%23; Dieletric: X7R; ComponentLink1Description: Datasheet; ComponentLink1URL: https://br.mouser.com/datasheet/2/281/1/GRM32DR71H335KA88_01A-1988221.pdf; ComponentLink2Description: Mouser Link; ComponentLink2URL: https://br.mouser.com/ProductDetail/Murata-Electronics/GRM32DR71H335KA88L?qs=%2FV5QxPF79G3pLGpD0zdcGw%3D%3D
footprint C1210
pins: 1, 2

## GRM32ER61C476ME15
designator C?, comment 47uF
CAP CER 47uF 16V X5R 1210; Manufacturer: MURATA ELECTRONICS; Part Number: GRM32ER61C476ME15; Tolerance: 20%; Voltage - Rated: 16VDC; Supplier 1: MOUSER; Category: Ceramic capacitor; Price: OUT OF STOCK; Supplier Part Number 1: 81-GRM32ER61C476ME15; Library Ref: Capacitor; Operating Temperature: -55/85ºC; Package / Case: 1210; Size / Dimension: 12X10 IN; Value: 47uF; ESR: https://www.murata.com/en-global/products/productdetail?partno=GRM32ER61C476ME15%23; Dieletric: X5R; ComponentLink1Description: Datasheet; ComponentLink1URL: https://br.mouser.com/datasheet/2/281/1/GRM32ER61C476ME15_01A-1988242.pdf; ComponentLink2Description: Mouser Link; ComponentLink2URL: https://br.mouser.com/ProductDetail/Murata-Electronics/GRM32ER61C476ME15L?qs=%2Fha2pyFaduhqJK%252BxtQCAFPTBslzzU14W0qS0C2uxeWkHskrFu0lM2Uiawe%2F%252BoM5k
footprint C1210
pins: 1, 2

## GRM39X104K25
designator C?, comment 0.1uF
CAP CER 0.1uF 25V X7R 0603; Manufacturer: MURATA ELECTRONICS; Part Number: GRM39X104K25; Tolerance: 20%; Voltage - Rated: 25VDC; ESR: 100mΩ; Supplier 1: MOUSER; Category: Ceramic capacitor; Price: OUT OF STOCK; Supplier Part Number 1: 81-GRM39X104K25; Library Ref: Capacitor; Operating Temperature: -55/125ºC; Package / Case: 0603; Size / Dimension: 06X03 IN; Value: 0.1uF; Dieletric: X7R; ComponentLink1Description: Datasheet; ComponentLink1URL: https://br.mouser.com/datasheet/2/281/murata_03052018_GRM_Series_1-1310166.pdf; ComponentLink2Description: Mouser Link; ComponentLink2URL: https://br.mouser.com/ProductDetail/Murata-Electronics/GRM188R71E104KA01D?qs=%2Fha2pyFaduiZGTXBCPzk%2FmTbMtAE8bS6%252BO3gVgb8hKBi1xePxGtiOg%3D%3D
footprint C0603
pins: 1, 2

## GRM155R71C822KA1D
designator C?, comment 8200pF
CAP CER 8200pF 16V X7R 0402; Manufacturer: MURATA ELECTRONICS; Part Number: GRM155R71C822KA1D; Tolerance: 10%; Voltage - Rated: 16VDC; Supplier 1: MOUSER; Category: Ceramic capacitor; Price: 1=0,10, 10=0,022, 100=0,018 (USD); Supplier Part Number 1: 81-GRM155R71C822KA1D; Library Ref: Capacitor; Operating Temperature: -55/125ºC; Package / Case: 0402; Size / Dimension: 04X02 IN; Value: 8200pF; ESR: -; Dieletric: X7R; ComponentLink1Description: Datasheet; ComponentLink1URL: https://br.mouser.com/datasheet/2/281/1/GRM155R71C822KA01_01A-1983909.pdf; ComponentLink2Description: Mouser Link; ComponentLink2URL: https://br.mouser.com/ProductDetail/Murata-Electronics/GRM155R71C822KA01D?qs=%2Fha2pyFadujIarpTQ7m9MPaz%252BN%2FQOnj6ABw6ksN0X3HWYLj8s8iz%2Fh%252B3WqSydmOK
footprint C0402
pins: 1, 2

## GRM188C60J226ME0J
designator C?, comment 22uF
CAP CER 22uF 6.3V X5S 0603; Manufacturer: MURATA ELECTRONICS; Part Number: GRM188C60J226ME0J; Tolerance: 20%; Voltage - Rated: 6.3VDC; Supplier 1: MOUSER; Category: Ceramic capacitor; Price: 1=29, 10=0,203, 100=0,115 (USD); Supplier Part Number 1: 81-GRM188C60J226ME0J; Library Ref: Capacitor; Operating Temperature: -55/85ºC; Package / Case: 0603; Size / Dimension: 06X03 IN; Value: 22uF; ESR: -; Dieletric: X5S; ComponentLink1Description: Datasheet; ComponentLink1URL: https://br.mouser.com/datasheet/2/281/1/GRM188C60J226MEA0_01A-1985649.pdf; ComponentLink2Description: Mouser Link; ComponentLink2URL: https://br.mouser.com/ProductDetail/Murata-Electronics/GRM188C60J226MEA0J?qs=QzBtWTOodeUEaGnmacnjfg%3D%3D
footprint C0603
pins: 1, 2

## GRM188R6YA106MA3D
designator C?, comment 10uF
CAP CER 10uF 35V X5R 0603; Manufacturer: MURATA ELECTRONICS; Part Number: GRM188R6YA106MA3D; Tolerance: 20%; Voltage - Rated: 35VDC; Supplier 1: MOUSER; Category: Ceramic capacitor; Price: 1=0,50, 10=0,246, 100=0,207 (USD); Supplier Part Number 1: 81-GRM188R6YA106MA3D; Library Ref: Capacitor; Operating Temperature: -55/85ºC; Package / Case: 0603; Size / Dimension: 06X03 IN; Value: 10uF; ESR: -; Dieletric: X5R; ComponentLink1Description: Datasheet; ComponentLink1URL: https://br.mouser.com/datasheet/2/281/1/GRM188R6YA106MA73_01A-1985794.pdf; ComponentLink2Description: Mouser Link; ComponentLink2URL: https://br.mouser.com/ProductDetail/Murata-Electronics/GRM188R6YA106MA73D?qs=%2Fha2pyFaduhBNtsLpLyKa%2F4VX3zHljfFnNSxzHh3oqmAp6k6KZ%2Fc0KTl5YCqvL7P
footprint C0603
pins: 1, 2

## GRM188R61C106MA3D
designator C?, comment 10uF
CAP CER 10uF 16V X5R 0603; Manufacturer: MURATA ELECTRONICS; Part Number: GRM188R61C106MA3D; Tolerance: 20%; Voltage - Rated: 16VDC; Supplier 1: MOUSER; Category: Ceramic capacitor; Price: 1=0,25, 10=0,126, 100=0,107 (USD); Supplier Part Number 1: 81-GRM188R61C106MA3D; Library Ref: Capacitor; Operating Temperature: -55/85ºC; Package / Case: 0603; Size / Dimension: 06X03 IN; Value: 10uF; ESR: -; Dieletric: X5R; ComponentLink1Description: Datasheet; ComponentLink1URL: https://br.mouser.com/datasheet/2/281/1/GRM188R61C106MA73_01A-1985803.pdf; ComponentLink2Description: Mouser Link; ComponentLink2URL: https://br.mouser.com/ProductDetail/Murata-Electronics/GRM188R61C106MA73D?qs=OXzh9Ga2KBH8Bmnena8%252BFw%3D%3D
footprint C0603
pins: 1, 2

## GRM188R61C475KAJ
designator C?, comment 4.7uF
CAP CER 4.7uF 16V X5R 0603; Manufacturer: MURATA ELECTRONICS; Part Number: GRM188R61C475KAJ; Tolerance: 10%; Voltage - Rated: 16VDC; ESR: 100mΩ; Supplier 1: MOUSER; Category: Ceramic capacitor; Price: 1=39, 10=0,27, 100=0,162 (USD); Supplier Part Number 1: 81-GRM188R61C475KAJ; Library Ref: Capacitor; Operating Temperature: -55/85ºC; Package / Case: 0603; Size / Dimension: 06X03 IN; Value: 4.7uF; Dieletric: X5R; ComponentLink1Description: Datasheet; ComponentLink1URL: https://br.mouser.com/datasheet/2/281/murata_03052018_GRM_Series_1-1310166.pdf; ComponentLink2Description: Mouser Link; ComponentLink2URL: https://br.mouser.com/ProductDetail/Murata-Electronics/GRM188R61C475KAAJD?qs=mJtAphxf33T5qOjL9fHG9Q%3D%3D
footprint C0603
pins: 1, 2

## GRM188R61E106MA3J
designator C?, comment 10uF
CAP CER 10uF 25V X5R 0603; Manufacturer: MURATA ELECTRONICS; Part Number: GRM188R61E106MA3J; Tolerance: 10%; Voltage - Rated: 25VDC; Supplier 1: MOUSER; Category: Ceramic capacitor; Price: 1=0,36, 10=0,177, 100=0,151 (USD); Supplier Part Number 1: 81-GRM188R61E106MA3J; Library Ref: Capacitor; Operating Temperature: -55/85ºC; Package / Case: 0603; Size / Dimension: 06X03 IN; Value: 10uF; ESR: -; Dieletric: X5R; ComponentLink1Description: Datasheet; ComponentLink1URL: https://br.mouser.com/datasheet/2/281/1/GRM188R61E106MA73_01A-1985806.pdf; ComponentLink2Description: Mouser Link; ComponentLink2URL: https://br.mouser.com/ProductDetail/Murata-Electronics/GRM188R61E106MA73J?qs=hNud%2FORuBR2%252B%252BY67hhW1nA%3D%3D
footprint C0603
pins: 1, 2

## GRM188R71A225KE15D
designator C?, comment 2.2 uF
CAP CER 2.2UF 10V X7R 0603; Manufacturer: MURATA; Part Number: GRM188R71A225KE15D; Tolerance: 10%; Supplier 1: MOUSER; Category: Ceramic Capacitor; Price: 1= 0.19000, 10= 0.07700, 100= 0.06500 (USD); Supplier Part Number 1: 81-GRM188R71A225KE15; Library Ref: Capacitor; Operating Temperature: -55°C/125°C; Package / Case: 0603 (1608 metric); Size / Dimension: 1.6mm x 0.8mm; Value: 2.2 uF; Voltage - Rated: 10V; Dieletric: X7R; ComponentLink1Description: Datasheet; ComponentLink1URL: https://br.mouser.com/datasheet/2/281/1/GRM188R71A225KE15_04A-1985813.pdf; ComponentLink2Description: Mouser Link; ComponentLink2URL: https://br.mouser.com/ProductDetail/Murata-Electronics/GRM188R71A225KE15D?qs=FI%2F1jqMWe7rgTInCPAq47w%3D%3D; ComponentLink3Description: ESR; ComponentLink3URL: https://www.murata.com/en-us/products/productdetail?partno=GRM188R71A225KE15%23
footprint C0603
pins: 1, 2

## GRM219R61E475KA73D
designator C?, comment 4.7uF
CAP CER 4.7uF 25V X5R 0805; Manufacturer: MURATA ELECTRONICS; Part Number: GRM219R61E475KA73D; Tolerance: 10%; Voltage - Rated: 25VDC; Supplier 1: MOUSER; Category: Ceramic capacitor; Price: 1=0,27, 10=0,112, 100=0,094 (USD); Supplier Part Number 1: 81-GRM219R61E475KA73D; Library Ref: Capacitor; Operating Temperature: -55/85ºC; Package / Case: 0805; Size / Dimension: 08X05 IN; Value: 4.7uF; ESR: https://www.murata.com/en-global/products/productdetail?partno=GRM219R61E475KA73%23; Dieletric: X5R; ComponentLink1Description: Datasheet; ComponentLink1URL: https://br.mouser.com/datasheet/2/281/1/GRM219R61E475KA73_01A-1986363.pdf; ComponentLink2Description: Mouser Link; ComponentLink2URL: https://br.mouser.com/ProductDetail/Murata-Electronics/GRM219R61E475KA73D?qs=%2Fha2pyFadui1540apPxqrcvNL2Od6%2FE9q78FE8iyERiL9ZO4NhnlONCgyc%2FC2rEQ
footprint C0805
pins: 1, 2

## GRM1885C1H621JA1D
designator C?, comment 620pF
CAP CER 620pF 50V C0G 0603; Manufacturer: MURATA ELECTRONICS; Part Number: GRM1885C1H621JA1D; Tolerance: 5%; Voltage - Rated: 50VDC; Dieletric: C0G (NP0); Supplier 1: MOUSER; Category: Ceramic capacitor; Price: 1=0,21, 10=0,15, 100=0,07 (USD); Supplier Part Number 1: 81-GRM1885C1H621JA1D; Library Ref: Capacitor; Operating Temperature: -55/125ºC; Package / Case: 0603; Size / Dimension: 06X03 IN; Value: 620pF; ESR: -; ComponentLink1Description: Datasheet; ComponentLink1URL: https://br.mouser.com/datasheet/2/281/1/GRM1885C1H621JA01_01A-1985038.pdf; ComponentLink2Description: Mouser Link; ComponentLink2URL: https://br.mouser.com/ProductDetail/Murata-Electronics/GRM1885C1H621JA01D?qs=%2Fha2pyFaduhBNtsLpLyKa2ATz5ahfmPAnBOsBA5D8iaeejB5GRLmJktjF0M6JlDO
footprint C0603
pins: 1, 2

## GRM2195C1H113JA1D
designator C?, comment 11000pF
CAP CER 11000pF 50V C0G 0805; Manufacturer: MURATA ELECTRONICS; Part Number: GRM2195C1H113JA1D; Tolerance: 5%; Voltage - Rated: 50VDC; Dieletric: C0G (NP0); Supplier 1: MOUSER; Category: Ceramic capacitor; Price: 1=42, 10=203, 100=0,192 (USD); Supplier Part Number 1: 81-GRM2195C1H113JA1D; Library Ref: Capacitor; Operating Temperature: -55/125ºC; Package / Case: 0805; Size / Dimension: 08X05 IN; Value: 11000pF; ESR: -; ComponentLink1Description: Datasheet; ComponentLink1URL: https://br.mouser.com/datasheet/2/281/1/GRM2195C1H113JA01_01A-1986295.pdf; ComponentLink2Description: Mouser Link; ComponentLink2URL: https://br.mouser.com/ProductDetail/Murata-Electronics/GRM2195C1H113JA01D?qs=h0WOCFF19UIJz4Gbe2dSsg%3D%3D
footprint C0805
pins: 1, 2

## GRM2195C1H133JA1D
designator C?, comment 13000pF
CAP CER 13000pF 50V C0G 0805; Manufacturer: MURATA ELECTRONICS; Part Number: GRM2195C1H133JA1D; Tolerance: 5%; Voltage - Rated: 50VDC; Dieletric: C0G (NP0); Supplier 1: MOUSER; Category: Ceramic capacitor; Price: 1=0,43, 10=0,30, 100=0,179 (USD); Supplier Part Number 1: 81-GRM2195C1H133JA1D; Library Ref: Capacitor; Operating Temperature: -55/125ºC; Package / Case: 0805; Size / Dimension: 08X05 IN; Value: 13000pF; ESR: -; ComponentLink1Description: Datasheet; ComponentLink1URL: https://br.mouser.com/datasheet/2/281/1/GRM2195C1H133JA01_01A-1986202.pdf; ComponentLink2Description: Mouser Link; ComponentLink2URL: https://br.mouser.com/ProductDetail/Murata-Electronics/GRM2195C1H133JA01D?qs=%2Fha2pyFadugq0yC%2Fv5omHUTczO%252BCVbAU6i8B0TO1VQl6hUmSBMEOshXkhaFOjXqb
footprint C0805
pins: 1, 2